# Altium footprint library diploma.PcbLib: 27 footprints (part 1 of 2)
Each footprint in its own frame and in the unit in brackets; x right, y up, seen from the top. Pads: shape width x height; smd on the part's side, far side on the other; paste and mask are expansions set on the pad; w line width, h text height; cw(c..) or ccw(c..) is an arc to the next point about the centre after c.
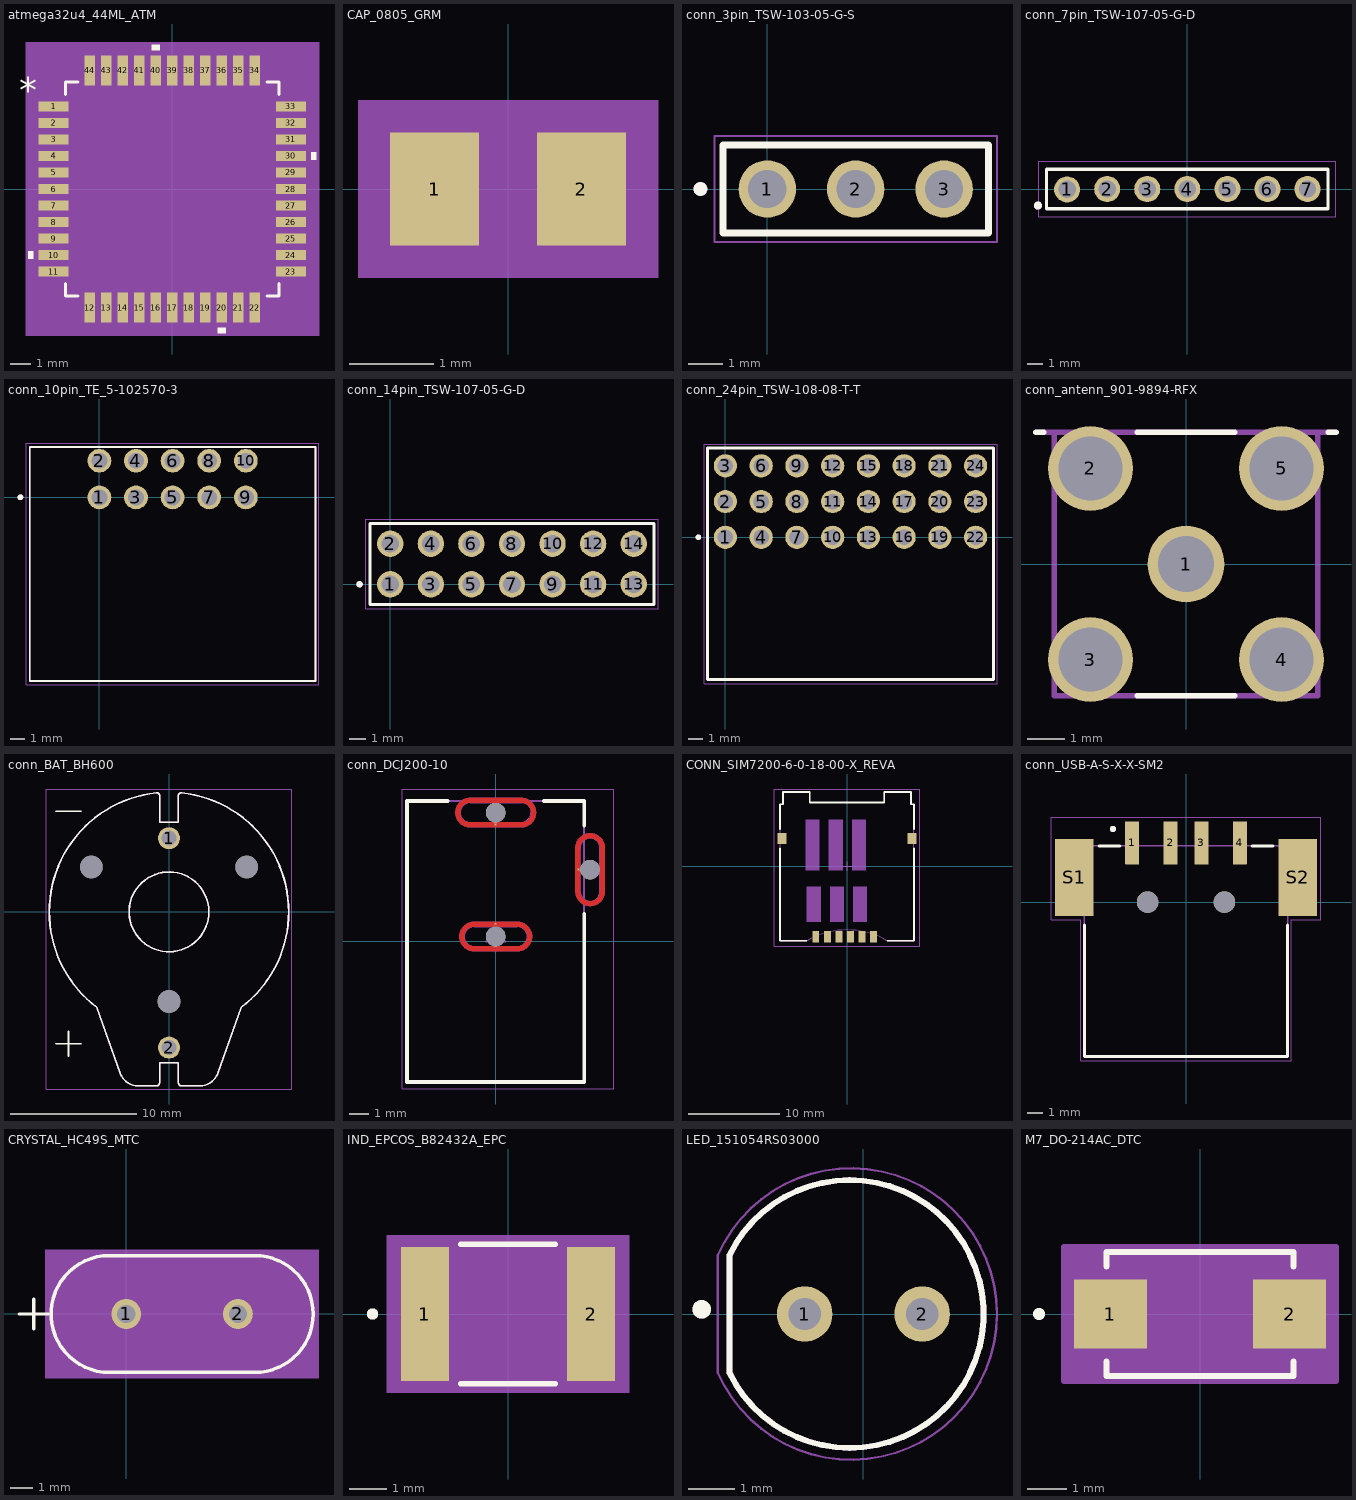
[diagram p0: the footprints below, top view; thin cyan lines are the x and y axes]

## atmega32u4_44ML_ATM [mm]
pads (44):
  rect 1.45x0.5 smd paste+0 mask+0: 1(-5.75,4) 2(-5.75,3.2) 3(-5.75,2.4) 4(-5.75,1.6) 5(-5.75,0.8) 6(-5.75,0) 7(-5.75,-0.8) 8(-5.75,-1.6) 9(-5.75,-2.4) 10(-5.75,-3.2) 11(-5.75,-4) 23(5.75,-4) 24(5.75,-3.2) 25(5.75,-2.4) 26(5.75,-1.6) 27(5.75,-0.8) 28(5.75,0) 29(5.75,0.8) 30(5.75,1.6) 31(5.75,2.4) 32(5.75,3.2) 33(5.75,4)
  rect 0.5x1.45 smd paste+0 mask+0: 12(-4,-5.75) 13(-3.2,-5.75) 14(-2.4,-5.75) 15(-1.6,-5.75) 16(-0.8,-5.75) 17(0,-5.75) 18(0.8,-5.75) 19(1.6,-5.75) 20(2.4,-5.75) 21(3.2,-5.75) 22(4,-5.75) 34(4,5.75) 35(3.2,5.75) 36(2.4,5.75) 37(1.6,5.75) 38(0.8,5.75) 39(0,5.75) 40(-0.8,5.75) 41(-1.6,5.75) 42(-2.4,5.75) 43(-3.2,5.75) 44(-4,5.75)
Top Overlay:
  region: -6.729,-3.009 -6.983,-3.009 -6.983,-3.39 -6.729,-3.39
  region: 2.591,-6.729 2.21,-6.729 2.21,-6.983 2.591,-6.983
  region: 6.729,1.79 6.983,1.79 6.983,1.409 6.729,1.409
  region: -0.61,6.729 -0.991,6.729 -0.991,6.983 -0.61,6.983
  lines w0.152: -5.177,-4.583 -5.177,-5.177 -4.583,-5.177 ; -5.177,4.583 -5.177,5.177 -4.583,5.177 ; 4.583,-5.177 5.177,-5.177 5.177,-4.583 ; 4.583,5.177 5.177,5.177 5.177,4.583
  text "*" at -7.428,4.146 h1.27
Mechanical 5:
  region: 7.11,-7.11 -7.11,-7.11 -7.11,7.11 7.11,7.11
Mechanical 13:
  drawing of 181 lines, arcs and shapes, not listed
  text "*" at -4.987,3.765 h1.27
Mechanical 15:
  region: -4.504,-5.304 -5.304,-5.304 -5.304,-4.504 -6.729,-4.504 -6.729,4.504 -5.304,4.504 -5.304,5.304 -4.504,5.304 -4.504,6.729 4.504,6.729 4.504,5.304 5.304,5.304 5.304,4.504 6.729,4.504 6.729,-4.504 5.304,-4.504 5.304,-5.304 4.504,-5.304 4.504,-6.729 -4.504,-6.729
  lines w0.152: -6.729,-4.504 -5.304,-4.504 -5.304,-5.304 -4.504,-5.304 -4.504,-6.729 4.504,-6.729 4.504,-5.304 5.304,-5.304 5.304,-4.504 6.729,-4.504 6.729,4.504 5.304,4.504 5.304,5.304 4.504,5.304 4.504,6.729 -4.504,6.729 -4.504,5.304 -5.304,5.304 -5.304,4.504 -6.729,4.504 -6.729,-4.504
3D body: height 0.25, standoff 0, extent 0,0 0.254,0.254
3D body "ATmega32U4_44ML_ATM.step": height 1.2, standoff 0, extent -6.125,-6.125 6.125,6.125

## CAP_0805_GRM [mil]
pads (2):
  rect 41.78x53 smd paste+0 mask+0: 1(-34.39,0) 2(34.39,0)
Mechanical 5:
  region: 70.28,-41.5 -70.28,-41.5 -70.28,41.5 70.28,41.5
Mechanical 13:
  lines w1: -41.5,-26.5 -41.5,26.5 ; -41.5,-26.5 -13.5,-26.5 -13.5,26.5 -41.5,26.5 ; -41.5,-26.5 41.5,-26.5 ; -41.5,-26.5 -41.5,26.5 ; -41.5,26.5 41.5,26.5 ; 41.5,-26.5 13.5,-26.5 13.5,26.5 41.5,26.5 ; 41.5,-26.5 41.5,26.5 ; 41.5,-26.5 41.5,26.5
Mechanical 15:
  region: 65.28,-36.5 -65.28,-36.5 -65.28,36.5 65.28,36.5
  lines w6: -65.28,-36.5 -65.28,36.5 65.28,36.5 65.28,-36.5 -65.28,-36.5
3D body "CAP_GRM_21B_MUR.step": height 52.99, standoff 0, extent -41.49,-26.49 41.51,26.5
3D body: height 10, standoff 0, extent 0,0 10,10

## conn_3pin_TSW-103-05-G-S [mm]
pads (3):
  round 1.65 hole 1.1: 1(0,0) 2(2.54,0) 3(5.08,0)
Top Overlay:
  circle w0.2: c-1.92,0 r0.1
  lines w0.2: -1.27,-1.27 6.35,-1.27 6.35,1.27 -1.27,1.27 -1.27,-1.27
Mechanical 13:
  circle w0.2: c-1.92,0 r0.1
  lines w0.1: -1.27,-1.27 6.35,-1.27 6.35,1.27 -1.27,1.27 -1.27,-1.27
Mechanical 15:
  lines w0.05: -1.52,-1.52 6.6,-1.52 6.6,1.52 -1.52,1.52 -1.52,-1.52
3D body "TSW-103-05-G-S.stp": height 5.21, standoff -3.3, extent -1.397,-1.27 6.35,1.27

## conn_7pin_TSW-107-05-G-D [mm] "2.54mm pitch, 7 pin, terminal strip; straight, single row"
height 2.54
pads (7):
  round 1.65 hole 1.1 mask+0: 1(-7.62,-0.025) 2(-5.08,0) 3(-2.54,0) 4(0,0) 5(2.54,0) 6(5.08,0) 7(7.62,0)
Top Overlay:
  circle w0.25: c-9.47,-1.05 r0.125
  lines w0.2: -8.92,-1.25 -8.92,1.25 8.93,1.25 8.93,-1.25 -8.92,-1.25
Mechanical 12:
  lines w0.001: -8.92,-1.25 -8.92,1.25 8.93,1.25 8.93,-1.25 -8.92,-1.25
Mechanical 13:
  circle w0.25: c-9.47,-1.05 r0.125
  lines w0.1: -8.92,-1.25 -8.92,1.25 8.93,1.25 8.93,-1.25 -8.92,-1.25
  text ".Designator" at 0,0 h1.52
Mechanical 15:
  lines w0.05: -9.42,-1.75 -9.42,1.75 9.43,1.75 9.43,-1.75 -9.42,-1.75
3D body "conn_7pin_TSW-107-05-G-S.stp": height 5.21, standoff -3.3, extent -8.89,-1.27 9.017,1.27

## conn_10pin_TE_5-102570-3 [mm]
pads (10):
  round 1.65 hole 1.1: 1(0,0) 2(0,2.54) 3(2.54,0) 4(2.54,2.54) 5(5.08,0) 6(5.08,2.54) 7(7.62,0) 8(7.62,2.54) 9(10.16,0) 10(10.16,2.54)
Top Overlay:
  circle w0.2: c-5.476,0 r0.1
  lines w0.127: -4.826,-12.738 -4.826,3.493 14.986,3.493 14.986,-12.738 -4.826,-12.738
Mechanical 13:
  circle w0.2: c-5.476,0 r0.1
  lines w0.127: -4.826,-12.738 -4.826,3.493 14.986,3.493 14.986,-12.738 ; -4.826,-12.738 14.986,-12.738 ; -4.826,-12.738 14.986,-12.738
Mechanical 15:
  lines w0.05: -5.076,-12.988 -5.076,3.743 15.236,3.743 15.236,-12.988 -5.076,-12.988
3D body "TE_5-102570-3.STEP": height 11.08, standoff -2.83, extent -4.856,-12.881 14.956,3.35

## conn_14pin_TSW-107-05-G-D [mm]
pads (14):
  round 1.65 hole 1.1: 1(0,0) 2(0,2.54) 3(2.54,0) 4(2.54,2.54) 5(5.08,0) 6(5.08,2.54) 7(7.62,0) 8(7.62,2.54) 9(10.16,0) 10(10.16,2.54) 11(12.7,0) 12(12.7,2.54) 13(15.24,0) 14(15.24,2.54)
Top Overlay:
  circle w0.2: c-1.92,0 r0.1
  lines w0.2: -1.27,-1.27 16.51,-1.27 16.51,3.81 -1.27,3.81 -1.27,-1.27
Mechanical 13:
  circle w0.2: c-1.92,0 r0.1
  lines w0.1: -1.27,-1.27 16.51,-1.27 16.51,3.81 -1.27,3.81 -1.27,-1.27
Mechanical 15:
  lines w0.05: -1.52,-1.52 16.76,-1.52 16.76,4.06 -1.52,4.06 -1.52,-1.52
3D body "conn_2x7pin_TSW-107-05-G-D.stp": height 5.21, standoff -3.3, extent -1.27,-1.27 16.51,3.81

## conn_24pin_TSW-108-08-T-T [mm]
pads (24):
  round 1.65 hole 1.1: 1(0,0) 2(0,2.54) 3(0,5.08) 4(2.54,0) 5(2.54,2.54) 6(2.54,5.08) 7(5.08,0) 8(5.08,2.54) 9(5.08,5.08) 10(7.62,0) 11(7.62,2.54) 12(7.62,5.08) 13(10.16,0) 14(10.16,2.54) 15(10.16,5.08) 16(12.7,0) 17(12.7,2.54) 18(12.7,5.08) 19(15.24,0) 20(15.24,2.54) 21(15.24,5.08) 22(17.78,0) 23(17.78,2.54) 24(17.78,5.08)
Top Overlay:
  circle w0.2: c-1.92,0 r0.1
  lines w0.2: -1.27,-10.1 -1.27,6.35 19.05,6.35 19.05,-10.1 -1.27,-10.1
Mechanical 13:
  circle w0.2: c-1.92,0 r0.1
  lines w0.1: -1.27,-10.1 -1.27,6.35 19.05,6.35 19.05,-10.1 -1.27,-10.1
Mechanical 15:
  lines w0.05: -1.52,-10.4 -1.52,6.6 19.3,6.6 19.3,-10.4 -1.52,-10.4
3D body "TSW-108-08-T-T-LA.stp": height 7.81, standoff -2.6, extent -1.27,-9.938 19.05,5.366

## conn_antenn_901-9894-RFX [mm]
pads (5):
  round 2.05 hole 1.5: 1(0,0)
  round 2.25 hole 1.7: 2(-2.54,2.54) 3(-2.54,-2.54) 4(2.54,-2.54) 5(2.54,2.54)
Top Overlay:
  lines w0.152: -3.988,3.505 -3.785,3.505 ; -1.295,-3.505 1.295,-3.505 ; -1.295,3.505 1.295,3.505 ; 3.785,3.505 3.988,3.505
Mechanical 13:
  lines w0.152: -3.988,3.505 -3.505,3.505 ; 3.988,3.505 3.505,3.505 ; -3.505,3.505 3.505,3.505 ; -3.505,3.505 -3.505,-3.505 3.505,-3.505 3.505,3.505
3D body "901-9894-RFX.STEP": height 10.98, standoff -3.94, extent -4,-3.5 4,13.1

## conn_BAT_BH600 [mm]
pads (5):
  round 1.75 hole 1.2: 1(0,5.86) 2(0,-10.8)
  round 1.8 hole 1.8 unplated: ""(-6.179,3.568) ""(0,-7.135) ""(6.179,3.568)
Top Overlay:
  circle w0.127: c0,0 r3.175
  lines w0.127: -9.525,-0.004 ccw(c-0.005,-0.004) -5.734,-7.607 ; -9.525,0 cw(c-0.002,0) -0.997,9.471 ; -9,-10.5 -7,-10.5 ; -9,8 -7,8 ; -8,-11.5 -8,-9.5 ; -5.75,-7.595 -3.867,-12.851 ; -3.864,-12.858 ccw(c-2.455,-12.345) -2.455,-13.845 -1,-13.845 ccw(c-1,-13.595) -0.75,-13.595 -0.75,-12 0.75,-12 0.75,-13.595 ccw(c1,-13.595) 1,-13.845 2.455,-13.845 ccw(c2.455,-12.345) 3.864,-12.858 ; -0.96,9.475 cw(c-0.968,9.257) -0.75,9.25 -0.75,7.135 0.75,7.135 0.75,9.25 ; 0.75,9.248 cw(c0.965,9.26) 0.961,9.475 ; 0.997,9.471 cw(c0.002,0) 9.525,0 ; 3.867,-12.851 5.75,-7.595 ; 5.734,-7.607 ccw(c0.005,-0.004) 9.525,-0.004
Mechanical 13:
  circle w0.127: c0,0 r3.175
  lines w0.127: -9.525,-0.004 ccw(c-0.005,-0.004) -5.734,-7.607 ; -9.525,0 cw(c-0.002,0) -0.997,9.471 ; -5.75,-7.595 -3.867,-12.851 ; -3.864,-12.858 ccw(c-2.455,-12.345) -2.455,-13.845 -1,-13.845 ccw(c-1,-13.595) -0.75,-13.595 -0.75,-12 0.75,-12 0.75,-13.595 ccw(c1,-13.595) 1,-13.845 2.455,-13.845 ccw(c2.455,-12.345) 3.864,-12.858 ; -0.96,9.475 cw(c-0.968,9.257) -0.75,9.25 -0.75,7.135 0.75,7.135 0.75,9.25 ; 0.75,9.248 cw(c0.965,9.26) 0.961,9.475 ; 0.997,9.471 cw(c0.002,0) 9.525,0 ; 3.867,-12.851 5.75,-7.595 ; 5.734,-7.607 ccw(c0.005,-0.004) 9.525,-0.004
Mechanical 15:
  lines w0.05: -9.775,-14.095 9.775,-14.095 9.775,9.775 -9.775,9.775 -9.775,-14.095
3D body "CR2032_BH600.STEP": height 7.34, standoff -5.36, extent -9.524,-13.843 9.525,9.504

## conn_DCJ200-10 [mm]
pads (6):
  rect 0.1x0.1 smd paste-1 mask+0: 1(0,5.95) 2(0,0.9) 3(4.2,3.65)
  round 1 hole 1: ""(0,0.25) ""(0,6.55) ""(4.8,3.65)
Top Layer:
  region: 1.339,7.299 1.378,7.296 1.417,7.291 1.456,7.284 1.494,7.274 1.532,7.263 1.569,7.25 1.605,7.235 1.64,7.218 1.675,7.2 1.708,7.179 1.741,7.157 1.772,7.133 1.802,7.107 1.83,7.08 1.857,7.052 1.883,7.022 1.907,6.991 1.929,6.958 1.95,6.925 1.968,6.89 1.985,6.855 2,6.819 2.013,6.782 2.024,6.744 2.034,6.706 2.041,6.667 2.046,6.628 2.049,6.589 2.05,6.55 2.049,6.511 2.046,6.472 2.041,6.433 2.034,6.394 2.024,6.356 2.013,6.318 2,6.281 1.985,6.245 1.968,6.21 1.95,6.175 1.929,6.142 1.907,6.109 1.883,6.078 1.857,6.048 1.83,6.02 1.802,5.993 1.772,5.967 1.741,5.943 1.708,5.921 1.675,5.9 1.64,5.882 1.605,5.865 1.569,5.85 1.532,5.837 1.494,5.826 1.456,5.816 1.417,5.809 1.378,5.804 1.339,5.801 1.3,5.8 0,5.8 0,6.05 1.3,6.05 1.326,6.051 1.352,6.053 1.378,6.056 1.404,6.061 1.429,6.067 1.455,6.074 1.479,6.083 1.503,6.093 1.527,6.104 1.55,6.117 1.572,6.131 1.594,6.145 1.615,6.161 1.635,6.178 1.654,6.196 1.672,6.215 1.689,6.235 1.705,6.256 1.719,6.278 1.733,6.3 1.746,6.323 1.757,6.347 1.767,6.371 1.776,6.395 1.783,6.421 1.789,6.446 1.794,6.472 1.797,6.498 1.799,6.524 1.8,6.55 1.799,6.576 1.797,6.602 1.794,6.628 1.789,6.654 1.783,6.679 1.776,6.705 1.767,6.729 1.757,6.753 1.746,6.777 1.733,6.8 1.719,6.822 1.705,6.844 1.689,6.865 1.672,6.885 1.654,6.904 1.635,6.922 1.615,6.939 1.594,6.955 1.572,6.969 1.55,6.983 1.527,6.996 1.503,7.007 1.479,7.017 1.455,7.026 1.429,7.033 1.404,7.039 1.378,7.044 1.352,7.047 1.326,7.049 1.3,7.05 0,7.05 0,7.3 1.3,7.3
  region: 0,7.05 -1.3,7.05 -1.326,7.049 -1.352,7.047 -1.378,7.044 -1.404,7.039 -1.429,7.033 -1.455,7.026 -1.479,7.017 -1.503,7.007 -1.527,6.996 -1.55,6.983 -1.572,6.969 -1.594,6.955 -1.615,6.939 -1.635,6.922 -1.654,6.904 -1.672,6.885 -1.689,6.865 -1.705,6.844 -1.719,6.822 -1.733,6.8 -1.746,6.777 -1.757,6.753 -1.767,6.729 -1.776,6.705 -1.783,6.679 -1.789,6.654 -1.794,6.628 -1.797,6.602 -1.799,6.576 -1.8,6.55 -1.799,6.524 -1.797,6.498 -1.794,6.472 -1.789,6.446 -1.783,6.421 -1.776,6.395 -1.767,6.371 -1.757,6.347 -1.746,6.323 -1.733,6.3 -1.719,6.278 -1.705,6.256 -1.689,6.235 -1.672,6.215 -1.654,6.196 -1.635,6.178 -1.615,6.161 -1.594,6.145 -1.572,6.131 -1.55,6.117 -1.527,6.104 -1.503,6.093 -1.479,6.083 -1.455,6.074 -1.429,6.067 -1.404,6.061 -1.378,6.056 -1.352,6.053 -1.326,6.051 -1.3,6.05 0,6.05 0,5.8 -1.3,5.8 -1.339,5.801 -1.378,5.804 -1.417,5.809 -1.456,5.816 -1.494,5.826 -1.532,5.837 -1.569,5.85 -1.605,5.865 -1.64,5.882 -1.675,5.9 -1.708,5.921 -1.741,5.943 -1.772,5.967 -1.802,5.993 -1.83,6.02 -1.857,6.048 -1.883,6.078 -1.907,6.109 -1.929,6.142 -1.95,6.175 -1.968,6.21 -1.985,6.245 -2,6.281 -2.013,6.318 -2.024,6.356 -2.034,6.394 -2.041,6.433 -2.046,6.472 -2.049,6.511 -2.05,6.55 -2.049,6.589 -2.046,6.628 -2.041,6.667 -2.034,6.706 -2.024,6.744 -2.013,6.782 -2,6.819 -1.985,6.855 -1.968,6.89 -1.95,6.925 -1.929,6.958 -1.907,6.991 -1.883,7.022 -1.857,7.052 -1.83,7.08 -1.802,7.107 -1.772,7.133 -1.741,7.157 -1.708,7.179 -1.675,7.2 -1.64,7.218 -1.605,7.235 -1.569,7.25 -1.532,7.263 -1.494,7.274 -1.456,7.284 -1.417,7.291 -1.378,7.296 -1.339,7.299 -1.3,7.3 0,7.3
  region: 4.839,5.499 4.878,5.496 4.917,5.491 4.956,5.484 4.994,5.474 5.032,5.463 5.069,5.45 5.105,5.435 5.14,5.418 5.175,5.4 5.208,5.379 5.241,5.357 5.272,5.333 5.302,5.307 5.33,5.28 5.357,5.252 5.383,5.222 5.407,5.191 5.429,5.158 5.45,5.125 5.468,5.09 5.485,5.055 5.5,5.019 5.513,4.982 5.524,4.944 5.534,4.906 5.541,4.867 5.546,4.828 5.549,4.789 5.55,4.75 5.55,3.65 5.3,3.65 5.3,4.75 5.299,4.776 5.297,4.802 5.294,4.828 5.289,4.854 5.283,4.879 5.276,4.905 5.267,4.929 5.257,4.953 5.246,4.977 5.233,5 5.219,5.022 5.205,5.044 5.189,5.065 5.172,5.085 5.154,5.104 5.135,5.122 5.115,5.139 5.094,5.155 5.072,5.169 5.05,5.183 5.027,5.196 5.003,5.207 4.979,5.217 4.955,5.226 4.929,5.233 4.904,5.239 4.878,5.244 4.852,5.247 4.826,5.249 4.8,5.25 4.774,5.249 4.748,5.247 4.722,5.244 4.696,5.239 4.671,5.233 4.645,5.226 4.621,5.217 4.597,5.207 4.573,5.196 4.55,5.183 4.528,5.169 4.506,5.155 4.485,5.139 4.465,5.122 4.446,5.104 4.428,5.085 4.411,5.065 4.395,5.044 4.381,5.022 4.367,5 4.354,4.977 4.343,4.953 4.333,4.929 4.324,4.905 4.317,4.879 4.311,4.854 4.306,4.828 4.303,4.802 4.301,4.776 4.3,4.75 4.3,3.65 4.05,3.65 4.05,4.75 4.051,4.789 4.054,4.828 4.059,4.867 4.066,4.906 4.076,4.944 4.087,4.982 4.1,5.019 4.115,5.055 4.132,5.09 4.15,5.125 4.171,5.158 4.193,5.191 4.217,5.222 4.243,5.252 4.27,5.28 4.298,5.307 4.328,5.333 4.359,5.357 4.392,5.379 4.425,5.4 4.46,5.418 4.495,5.435 4.531,5.45 4.568,5.463 4.606,5.474 4.644,5.484 4.683,5.491 4.722,5.496 4.761,5.499 4.8,5.5
  region: 5.55,2.55 5.549,2.511 5.546,2.472 5.541,2.433 5.534,2.394 5.524,2.356 5.513,2.318 5.5,2.281 5.485,2.245 5.468,2.21 5.45,2.175 5.429,2.142 5.407,2.109 5.383,2.078 5.357,2.048 5.33,2.02 5.302,1.993 5.272,1.967 5.241,1.943 5.208,1.921 5.175,1.9 5.14,1.882 5.105,1.865 5.069,1.85 5.032,1.837 4.994,1.826 4.956,1.816 4.917,1.809 4.878,1.804 4.839,1.801 4.8,1.8 4.761,1.801 4.722,1.804 4.683,1.809 4.644,1.816 4.606,1.826 4.568,1.837 4.531,1.85 4.495,1.865 4.46,1.882 4.425,1.9 4.392,1.921 4.359,1.943 4.328,1.967 4.298,1.993 4.27,2.02 4.243,2.048 4.217,2.078 4.193,2.109 4.171,2.142 4.15,2.175 4.132,2.21 4.115,2.245 4.1,2.281 4.087,2.318 4.076,2.356 4.066,2.394 4.059,2.433 4.054,2.472 4.051,2.511 4.05,2.55 4.05,3.65 4.3,3.65 4.3,2.55 4.301,2.524 4.303,2.498 4.306,2.472 4.311,2.446 4.317,2.421 4.324,2.395 4.333,2.371 4.343,2.347 4.354,2.323 4.367,2.3 4.381,2.278 4.395,2.256 4.411,2.235 4.428,2.215 4.446,2.196 4.465,2.178 4.485,2.161 4.506,2.145 4.528,2.131 4.55,2.117 4.573,2.104 4.597,2.093 4.621,2.083 4.645,2.074 4.671,2.067 4.696,2.061 4.722,2.056 4.748,2.053 4.774,2.051 4.8,2.05 4.826,2.051 4.852,2.053 4.878,2.056 4.904,2.061 4.929,2.067 4.955,2.074 4.979,2.083 5.003,2.093 5.027,2.104 5.05,2.117 5.072,2.131 5.094,2.145 5.115,2.161 5.135,2.178 5.154,2.196 5.172,2.215 5.189,2.235 5.205,2.256 5.219,2.278 5.233,2.3 5.246,2.323 5.257,2.347 5.267,2.371 5.276,2.395 5.283,2.421 5.289,2.446 5.294,2.472 5.297,2.498 5.299,2.524 5.3,2.55 5.3,3.65 5.55,3.65
  region: 1.139,0.999 1.178,0.996 1.217,0.991 1.256,0.984 1.294,0.974 1.332,0.963 1.369,0.95 1.405,0.935 1.44,0.918 1.475,0.9 1.508,0.879 1.541,0.857 1.572,0.833 1.602,0.807 1.63,0.78 1.657,0.752 1.683,0.722 1.707,0.691 1.729,0.658 1.75,0.625 1.768,0.59 1.785,0.555 1.8,0.519 1.813,0.482 1.824,0.444 1.834,0.406 1.841,0.367 1.846,0.328 1.849,0.289 1.85,0.25 1.849,0.211 1.846,0.172 1.841,0.133 1.834,0.094 1.824,0.056 1.813,0.018 1.8,-0.019 1.785,-0.055 1.768,-0.09 1.75,-0.125 1.729,-0.158 1.707,-0.191 1.683,-0.222 1.657,-0.252 1.63,-0.28 1.602,-0.307 1.572,-0.333 1.541,-0.357 1.508,-0.379 1.475,-0.4 1.44,-0.418 1.405,-0.435 1.369,-0.45 1.332,-0.463 1.294,-0.474 1.256,-0.484 1.217,-0.491 1.178,-0.496 1.139,-0.499 1.1,-0.5 0,-0.5 0,-0.25 1.1,-0.25 1.126,-0.249 1.152,-0.247 1.178,-0.244 1.204,-0.239 1.229,-0.233 1.255,-0.226 1.279,-0.217 1.303,-0.207 1.327,-0.196 1.35,-0.183 1.372,-0.169 1.394,-0.155 1.415,-0.139 1.435,-0.122 1.454,-0.104 1.472,-0.085 1.489,-0.065 1.505,-0.044 1.519,-0.022 1.533,0 1.546,0.023 1.557,0.047 1.567,0.071 1.576,0.095 1.583,0.121 1.589,0.146 1.594,0.172 1.597,0.198 1.599,0.224 1.6,0.25 1.599,0.276 1.597,0.302 1.594,0.328 1.589,0.354 1.583,0.379 1.576,0.405 1.567,0.429 1.557,0.453 1.546,0.477 1.533,0.5 1.519,0.522 1.505,0.544 1.489,0.565 1.472,0.585 1.454,0.604 1.435,0.622 1.415,0.639 1.394,0.655 1.372,0.669 1.35,0.683 1.327,0.696 1.303,0.707 1.279,0.717 1.255,0.726 1.229,0.733 1.204,0.739 1.178,0.744 1.152,0.747 1.126,0.749 1.1,0.75 0,0.75 0,1 1.1,1
  region: 0,0.75 -1.1,0.75 -1.126,0.749 -1.152,0.747 -1.178,0.744 -1.204,0.739 -1.229,0.733 -1.255,0.726 -1.279,0.717 -1.303,0.707 -1.327,0.696 -1.35,0.683 -1.372,0.669 -1.394,0.655 -1.415,0.639 -1.435,0.622 -1.454,0.604 -1.472,0.585 -1.489,0.565 -1.505,0.544 -1.519,0.522 -1.533,0.5 -1.546,0.477 -1.557,0.453 -1.567,0.429 -1.576,0.405 -1.583,0.379 -1.589,0.354 -1.594,0.328 -1.597,0.302 -1.599,0.276 -1.6,0.25 -1.599,0.224 -1.597,0.198 -1.594,0.172 -1.589,0.146 -1.583,0.121 -1.576,0.095 -1.567,0.071 -1.557,0.047 -1.546,0.023 -1.533,0 -1.519,-0.022 -1.505,-0.044 -1.489,-0.065 -1.472,-0.085 -1.454,-0.104 -1.435,-0.122 -1.415,-0.139 -1.394,-0.155 -1.372,-0.169 -1.35,-0.183 -1.327,-0.196 -1.303,-0.207 -1.279,-0.217 -1.255,-0.226 -1.229,-0.233 -1.204,-0.239 -1.178,-0.244 -1.152,-0.247 -1.126,-0.249 -1.1,-0.25 0,-0.25 0,-0.5 -1.1,-0.5 -1.139,-0.499 -1.178,-0.496 -1.217,-0.491 -1.256,-0.484 -1.294,-0.474 -1.332,-0.463 -1.369,-0.45 -1.405,-0.435 -1.44,-0.418 -1.475,-0.4 -1.508,-0.379 -1.541,-0.357 -1.572,-0.333 -1.602,-0.307 -1.63,-0.28 -1.657,-0.252 -1.683,-0.222 -1.707,-0.191 -1.729,-0.158 -1.75,-0.125 -1.768,-0.09 -1.785,-0.055 -1.8,-0.019 -1.813,0.018 -1.824,0.056 -1.834,0.094 -1.841,0.133 -1.846,0.172 -1.849,0.211 -1.85,0.25 -1.849,0.289 -1.846,0.328 -1.841,0.367 -1.834,0.406 -1.824,0.444 -1.813,0.482 -1.8,0.519 -1.785,0.555 -1.768,0.59 -1.75,0.625 -1.729,0.658 -1.707,0.691 -1.683,0.722 -1.657,0.752 -1.63,0.78 -1.602,0.807 -1.572,0.833 -1.541,0.857 -1.508,0.879 -1.475,0.9 -1.44,0.918 -1.405,0.935 -1.369,0.95 -1.332,0.963 -1.294,0.974 -1.256,0.984 -1.217,0.991 -1.178,0.996 -1.139,0.999 -1.1,1 0,1
Bottom Layer:
  region: 1.339,7.299 1.378,7.296 1.417,7.291 1.456,7.284 1.494,7.274 1.532,7.263 1.569,7.25 1.605,7.235 1.64,7.218 1.675,7.2 1.708,7.179 1.741,7.157 1.772,7.133 1.802,7.107 1.83,7.08 1.857,7.052 1.883,7.022 1.907,6.991 1.929,6.958 1.95,6.925 1.968,6.89 1.985,6.855 2,6.819 2.013,6.782 2.024,6.744 2.034,6.706 2.041,6.667 2.046,6.628 2.049,6.589 2.05,6.55 2.049,6.511 2.046,6.472 2.041,6.433 2.034,6.394 2.024,6.356 2.013,6.318 2,6.281 1.985,6.245 1.968,6.21 1.95,6.175 1.929,6.142 1.907,6.109 1.883,6.078 1.857,6.048 1.83,6.02 1.802,5.993 1.772,5.967 1.741,5.943 1.708,5.921 1.675,5.9 1.64,5.882 1.605,5.865 1.569,5.85 1.532,5.837 1.494,5.826 1.456,5.816 1.417,5.809 1.378,5.804 1.339,5.801 1.3,5.8 0,5.8 0,6.05 1.3,6.05 1.326,6.051 1.352,6.053 1.378,6.056 1.404,6.061 1.429,6.067 1.455,6.074 1.479,6.083 1.503,6.093 1.527,6.104 1.55,6.117 1.572,6.131 1.594,6.145 1.615,6.161 1.635,6.178 1.654,6.196 1.672,6.215 1.689,6.235 1.705,6.256 1.719,6.278 1.733,6.3 1.746,6.323 1.757,6.347 1.767,6.371 1.776,6.395 1.783,6.421 1.789,6.446 1.794,6.472 1.797,6.498 1.799,6.524 1.8,6.55 1.799,6.576 1.797,6.602 1.794,6.628 1.789,6.654 1.783,6.679 1.776,6.705 1.767,6.729 1.757,6.753 1.746,6.777 1.733,6.8 1.719,6.822 1.705,6.844 1.689,6.865 1.672,6.885 1.654,6.904 1.635,6.922 1.615,6.939 1.594,6.955 1.572,6.969 1.55,6.983 1.527,6.996 1.503,7.007 1.479,7.017 1.455,7.026 1.429,7.033 1.404,7.039 1.378,7.044 1.352,7.047 1.326,7.049 1.3,7.05 0,7.05 0,7.3 1.3,7.3
  region: 0,7.05 -1.3,7.05 -1.326,7.049 -1.352,7.047 -1.378,7.044 -1.404,7.039 -1.429,7.033 -1.455,7.026 -1.479,7.017 -1.503,7.007 -1.527,6.996 -1.55,6.983 -1.572,6.969 -1.594,6.955 -1.615,6.939 -1.635,6.922 -1.654,6.904 -1.672,6.885 -1.689,6.865 -1.705,6.844 -1.719,6.822 -1.733,6.8 -1.746,6.777 -1.757,6.753 -1.767,6.729 -1.776,6.705 -1.783,6.679 -1.789,6.654 -1.794,6.628 -1.797,6.602 -1.799,6.576 -1.8,6.55 -1.799,6.524 -1.797,6.498 -1.794,6.472 -1.789,6.446 -1.783,6.421 -1.776,6.395 -1.767,6.371 -1.757,6.347 -1.746,6.323 -1.733,6.3 -1.719,6.278 -1.705,6.256 -1.689,6.235 -1.672,6.215 -1.654,6.196 -1.635,6.178 -1.615,6.161 -1.594,6.145 -1.572,6.131 -1.55,6.117 -1.527,6.104 -1.503,6.093 -1.479,6.083 -1.455,6.074 -1.429,6.067 -1.404,6.061 -1.378,6.056 -1.352,6.053 -1.326,6.051 -1.3,6.05 0,6.05 0,5.8 -1.3,5.8 -1.339,5.801 -1.378,5.804 -1.417,5.809 -1.456,5.816 -1.494,5.826 -1.532,5.837 -1.569,5.85 -1.605,5.865 -1.64,5.882 -1.675,5.9 -1.708,5.921 -1.741,5.943 -1.772,5.967 -1.802,5.993 -1.83,6.02 -1.857,6.048 -1.883,6.078 -1.907,6.109 -1.929,6.142 -1.95,6.175 -1.968,6.21 -1.985,6.245 -2,6.281 -2.013,6.318 -2.024,6.356 -2.034,6.394 -2.041,6.433 -2.046,6.472 -2.049,6.511 -2.05,6.55 -2.049,6.589 -2.046,6.628 -2.041,6.667 -2.034,6.706 -2.024,6.744 -2.013,6.782 -2,6.819 -1.985,6.855 -1.968,6.89 -1.95,6.925 -1.929,6.958 -1.907,6.991 -1.883,7.022 -1.857,7.052 -1.83,7.08 -1.802,7.107 -1.772,7.133 -1.741,7.157 -1.708,7.179 -1.675,7.2 -1.64,7.218 -1.605,7.235 -1.569,7.25 -1.532,7.263 -1.494,7.274 -1.456,7.284 -1.417,7.291 -1.378,7.296 -1.339,7.299 -1.3,7.3 0,7.3
  region: 4.839,5.499 4.878,5.496 4.917,5.491 4.956,5.484 4.994,5.474 5.032,5.463 5.069,5.45 5.105,5.435 5.14,5.418 5.175,5.4 5.208,5.379 5.241,5.357 5.272,5.333 5.302,5.307 5.33,5.28 5.357,5.252 5.383,5.222 5.407,5.191 5.429,5.158 5.45,5.125 5.468,5.09 5.485,5.055 5.5,5.019 5.513,4.982 5.524,4.944 5.534,4.906 5.541,4.867 5.546,4.828 5.549,4.789 5.55,4.75 5.55,3.65 5.3,3.65 5.3,4.75 5.299,4.776 5.297,4.802 5.294,4.828 5.289,4.854 5.283,4.879 5.276,4.905 5.267,4.929 5.257,4.953 5.246,4.977 5.233,5 5.219,5.022 5.205,5.044 5.189,5.065 5.172,5.085 5.154,5.104 5.135,5.122 5.115,5.139 5.094,5.155 5.072,5.169 5.05,5.183 5.027,5.196 5.003,5.207 4.979,5.217 4.955,5.226 4.929,5.233 4.904,5.239 4.878,5.244 4.852,5.247 4.826,5.249 4.8,5.25 4.774,5.249 4.748,5.247 4.722,5.244 4.696,5.239 4.671,5.233 4.645,5.226 4.621,5.217 4.597,5.207 4.573,5.196 4.55,5.183 4.528,5.169 4.506,5.155 4.485,5.139 4.465,5.122 4.446,5.104 4.428,5.085 4.411,5.065 4.395,5.044 4.381,5.022 4.367,5 4.354,4.977 4.343,4.953 4.333,4.929 4.324,4.905 4.317,4.879 4.311,4.854 4.306,4.828 4.303,4.802 4.301,4.776 4.3,4.75 4.3,3.65 4.05,3.65 4.05,4.75 4.051,4.789 4.054,4.828 4.059,4.867 4.066,4.906 4.076,4.944 4.087,4.982 4.1,5.019 4.115,5.055 4.132,5.09 4.15,5.125 4.171,5.158 4.193,5.191 4.217,5.222 4.243,5.252 4.27,5.28 4.298,5.307 4.328,5.333 4.359,5.357 4.392,5.379 4.425,5.4 4.46,5.418 4.495,5.435 4.531,5.45 4.568,5.463 4.606,5.474 4.644,5.484 4.683,5.491 4.722,5.496 4.761,5.499 4.8,5.5
  region: 5.55,2.55 5.549,2.511 5.546,2.472 5.541,2.433 5.534,2.394 5.524,2.356 5.513,2.318 5.5,2.281 5.485,2.245 5.468,2.21 5.45,2.175 5.429,2.142 5.407,2.109 5.383,2.078 5.357,2.048 5.33,2.02 5.302,1.993 5.272,1.967 5.241,1.943 5.208,1.921 5.175,1.9 5.14,1.882 5.105,1.865 5.069,1.85 5.032,1.837 4.994,1.826 4.956,1.816 4.917,1.809 4.878,1.804 4.839,1.801 4.8,1.8 4.761,1.801 4.722,1.804 4.683,1.809 4.644,1.816 4.606,1.826 4.568,1.837 4.531,1.85 4.495,1.865 4.46,1.882 4.425,1.9 4.392,1.921 4.359,1.943 4.328,1.967 4.298,1.993 4.27,2.02 4.243,2.048 4.217,2.078 4.193,2.109 4.171,2.142 4.15,2.175 4.132,2.21 4.115,2.245 4.1,2.281 4.087,2.318 4.076,2.356 4.066,2.394 4.059,2.433 4.054,2.472 4.051,2.511 4.05,2.55 4.05,3.65 4.3,3.65 4.3,2.55 4.301,2.524 4.303,2.498 4.306,2.472 4.311,2.446 4.317,2.421 4.324,2.395 4.333,2.371 4.343,2.347 4.354,2.323 4.367,2.3 4.381,2.278 4.395,2.256 4.411,2.235 4.428,2.215 4.446,2.196 4.465,2.178 4.485,2.161 4.506,2.145 4.528,2.131 4.55,2.117 4.573,2.104 4.597,2.093 4.621,2.083 4.645,2.074 4.671,2.067 4.696,2.061 4.722,2.056 4.748,2.053 4.774,2.051 4.8,2.05 4.826,2.051 4.852,2.053 4.878,2.056 4.904,2.061 4.929,2.067 4.955,2.074 4.979,2.083 5.003,2.093 5.027,2.104 5.05,2.117 5.072,2.131 5.094,2.145 5.115,2.161 5.135,2.178 5.154,2.196 5.172,2.215 5.189,2.235 5.205,2.256 5.219,2.278 5.233,2.3 5.246,2.323 5.257,2.347 5.267,2.371 5.276,2.395 5.283,2.421 5.289,2.446 5.294,2.472 5.297,2.498 5.299,2.524 5.3,2.55 5.3,3.65 5.55,3.65
  region: 1.139,0.999 1.178,0.996 1.217,0.991 1.256,0.984 1.294,0.974 1.332,0.963 1.369,0.95 1.405,0.935 1.44,0.918 1.475,0.9 1.508,0.879 1.541,0.857 1.572,0.833 1.602,0.807 1.63,0.78 1.657,0.752 1.683,0.722 1.707,0.691 1.729,0.658 1.75,0.625 1.768,0.59 1.785,0.555 1.8,0.519 1.813,0.482 1.824,0.444 1.834,0.406 1.841,0.367 1.846,0.328 1.849,0.289 1.85,0.25 1.849,0.211 1.846,0.172 1.841,0.133 1.834,0.094 1.824,0.056 1.813,0.018 1.8,-0.019 1.785,-0.055 1.768,-0.09 1.75,-0.125 1.729,-0.158 1.707,-0.191 1.683,-0.222 1.657,-0.252 1.63,-0.28 1.602,-0.307 1.572,-0.333 1.541,-0.357 1.508,-0.379 1.475,-0.4 1.44,-0.418 1.405,-0.435 1.369,-0.45 1.332,-0.463 1.294,-0.474 1.256,-0.484 1.217,-0.491 1.178,-0.496 1.139,-0.499 1.1,-0.5 0,-0.5 0,-0.25 1.1,-0.25 1.126,-0.249 1.152,-0.247 1.178,-0.244 1.204,-0.239 1.229,-0.233 1.255,-0.226 1.279,-0.217 1.303,-0.207 1.327,-0.196 1.35,-0.183 1.372,-0.169 1.394,-0.155 1.415,-0.139 1.435,-0.122 1.454,-0.104 1.472,-0.085 1.489,-0.065 1.505,-0.044 1.519,-0.022 1.533,0 1.546,0.023 1.557,0.047 1.567,0.071 1.576,0.095 1.583,0.121 1.589,0.146 1.594,0.172 1.597,0.198 1.599,0.224 1.6,0.25 1.599,0.276 1.597,0.302 1.594,0.328 1.589,0.354 1.583,0.379 1.576,0.405 1.567,0.429 1.557,0.453 1.546,0.477 1.533,0.5 1.519,0.522 1.505,0.544 1.489,0.565 1.472,0.585 1.454,0.604 1.435,0.622 1.415,0.639 1.394,0.655 1.372,0.669 1.35,0.683 1.327,0.696 1.303,0.707 1.279,0.717 1.255,0.726 1.229,0.733 1.204,0.739 1.178,0.744 1.152,0.747 1.126,0.749 1.1,0.75 0,0.75 0,1 1.1,1
  region: 0,0.75 -1.1,0.75 -1.126,0.749 -1.152,0.747 -1.178,0.744 -1.204,0.739 -1.229,0.733 -1.255,0.726 -1.279,0.717 -1.303,0.707 -1.327,0.696 -1.35,0.683 -1.372,0.669 -1.394,0.655 -1.415,0.639 -1.435,0.622 -1.454,0.604 -1.472,0.585 -1.489,0.565 -1.505,0.544 -1.519,0.522 -1.533,0.5 -1.546,0.477 -1.557,0.453 -1.567,0.429 -1.576,0.405 -1.583,0.379 -1.589,0.354 -1.594,0.328 -1.597,0.302 -1.599,0.276 -1.6,0.25 -1.599,0.224 -1.597,0.198 -1.594,0.172 -1.589,0.146 -1.583,0.121 -1.576,0.095 -1.567,0.071 -1.557,0.047 -1.546,0.023 -1.533,0 -1.519,-0.022 -1.505,-0.044 -1.489,-0.065 -1.472,-0.085 -1.454,-0.104 -1.435,-0.122 -1.415,-0.139 -1.394,-0.155 -1.372,-0.169 -1.35,-0.183 -1.327,-0.196 -1.303,-0.207 -1.279,-0.217 -1.255,-0.226 -1.229,-0.233 -1.204,-0.239 -1.178,-0.244 -1.152,-0.247 -1.126,-0.249 -1.1,-0.25 0,-0.25 0,-0.5 -1.1,-0.5 -1.139,-0.499 -1.178,-0.496 -1.217,-0.491 -1.256,-0.484 -1.294,-0.474 -1.332,-0.463 -1.369,-0.45 -1.405,-0.435 -1.44,-0.418 -1.475,-0.4 -1.508,-0.379 -1.541,-0.357 -1.572,-0.333 -1.602,-0.307 -1.63,-0.28 -1.657,-0.252 -1.683,-0.222 -1.707,-0.191 -1.729,-0.158 -1.75,-0.125 -1.768,-0.09 -1.785,-0.055 -1.8,-0.019 -1.813,0.018 -1.824,0.056 -1.834,0.094 -1.841,0.133 -1.846,0.172 -1.849,0.211 -1.85,0.25 -1.849,0.289 -1.846,0.328 -1.841,0.367 -1.834,0.406 -1.824,0.444 -1.813,0.482 -1.8,0.519 -1.785,0.555 -1.768,0.59 -1.75,0.625 -1.729,0.658 -1.707,0.691 -1.683,0.722 -1.657,0.752 -1.63,0.78 -1.602,0.807 -1.572,0.833 -1.541,0.857 -1.508,0.879 -1.475,0.9 -1.44,0.918 -1.405,0.935 -1.369,0.95 -1.332,0.963 -1.294,0.974 -1.256,0.984 -1.217,0.991 -1.178,0.996 -1.139,0.999 -1.1,1 0,1
Top Overlay:
  lines w0.2: -2.45,7.15 -4.5,7.15 -4.5,-7.15 4.5,-7.15 4.5,1.4 ; 2.45,7.15 4.5,7.15 4.5,5.9
Top Paste:
  drawing of 6 lines, arcs and shapes, not listed
Bottom Paste:
  drawing of 6 lines, arcs and shapes, not listed
Top Solder:
  region: 2.15,5.706 -2.152,5.706 -2.152,7.4 2.15,7.4
  region: 5.648,5.6 5.648,1.705 3.952,1.705 3.952,5.6
  region: 1.95,-0.6 -1.951,-0.6 -1.951,1.1 1.95,1.1
Bottom Solder:
  region: 2.15,5.71 -2.154,5.71 -2.154,7.4 2.15,7.4
  region: 1.95,-0.6 -1.95,-0.6 -1.95,1.1 1.95,1.1
  region: 5.647,5.6 5.647,1.705 3.953,1.705 3.953,5.6
MechanicalLayer1:
  lines w0: -1.8,6.55 ccw(c-1.3,6.55) -1.3,6.05 1.25,6.05 ccw(c1.25,6.6) 1.8,6.6 ccw(c1.35,6.6) 1.35,7.05 -1.3,7.05 ccw(c-1.3,6.55) -1.8,6.55 ; -1.6,0.25 ccw(c-1.1,0.25) -1.1,-0.25 1.1,-0.25 ccw(c1.1,0.25) 1.6,0.25 ccw(c1.1,0.25) 1.1,0.75 -1.1,0.75 ccw(c-1.1,0.25) -1.6,0.25 ; 4.3,2.55 ccw(c4.8,2.55) 4.8,2.05 ccw(c4.8,2.55) 5.3,2.55 5.3,4.75 ccw(c4.8,4.75) 4.8,5.25 ccw(c4.8,4.75) 4.3,4.75 4.3,2.55
Mechanical 13:
  lines w0.1: -0.5,0 0.5,0 ; 0,-0.5 0,0.5 ; -4.5,-7.15 -4.5,7.15 4.5,7.15 4.5,-7.15 -4.5,-7.15
Mechanical 15:
  lines w0.05: -4.75,-7.5 -4.75,7.75 6,7.75 6,-7.5 -4.75,-7.5
3D body "DCJ200-10-A-K1-K--3DModel-STEP-56544.STEP": height 11, standoff -3.5, extent -4.445,-7.277 5.105,7.023

## CONN_SIM7200-6-0-18-00-X_REVA [mm]
pads (8):
  rect 0.75x1.25 smd: 1(-2.16,-7.75) 2(0.38,-7.75) 3(2.92,-7.75) 4(-3.43,-7.75) 5(-0.89,-7.75) 6(1.65,-7.75)
  rect 1x1.2 smd: ""(-7.15,3.075) ""(7.15,3.075)
Top Overlay:
  lines w0.2: -7.35,2 -7.35,-8.175 -4.42,-8.175 ; -7.35,4.1 -7.35,6.825 -7.025,6.825 -7.025,8.175 -4.095,8.175 -4.095,7.025 4.095,7.025 4.095,8.175 7.025,8.175 7.025,6.825 7.35,6.825 7.35,4.1 ; 4.42,-8.175 7.35,-8.175 7.35,2
Mechanical 13:
  lines w0.1: -4.42,-8.175 -7.35,-8.175 -7.35,6.825 -7.025,6.825 -7.025,8.175 -4.095,8.175 -4.095,7.025 4.095,7.025 4.095,8.175 7.025,8.175 7.025,6.825 7.35,6.825 7.35,-8.175 4.42,-8.175 ; -4.37,-8.146 cw(c0,-15.715) 4.37,-8.146
Mechanical 15:
  region: 2.18,-6.105 0.68,-6.105 0.68,-2.215 2.18,-2.215
  region: -0.49,-0.405 -1.99,-0.405 -1.99,5.095 -0.49,5.095
  region: -0.36,-6.105 -1.86,-6.105 -1.86,-2.215 -0.36,-2.215
  region: 2.05,-0.405 0.55,-0.405 0.55,5.095 2.05,5.095
  region: -2.9,-6.105 -4.4,-6.105 -4.4,-2.215 -2.9,-2.215
  region: -3.03,-0.405 -4.53,-0.405 -4.53,5.095 -3.03,5.095
  lines w0.05: -8,-8.75 8,-8.75 8,8.5 -8,8.5 -8,-8.75
  lines w0.1: -0.5,0 0.5,0 ; 0,-0.5 0,0.5
3D body "SIM7200.STEP": height 1.74, standoff -0.01, extent -7.355,-8.236 7.345,8.114

## conn_USB-A-S-X-X-SM2 [mm]
pads (8):
  rrect4% 0.9x2.8 smd: 1(-3.5,3.85) 2(-1,3.85) 3(1,3.85) 4(3.5,3.85)
  rect 2.5x5 smd: S1(-7.25,1.6) S2(7.25,1.6)
  round 1.4 hole 1.4 unplated: ""(-2.5,0) ""(2.5,0)
Top Overlay:
  circle w0.2: c-4.75,4.75 r0.1
  lines w0.2: -6.6,-1.5 -6.6,-10.05 6.6,-10.05 6.6,-1.5 ; -5.65,3.65 -4.3,3.65 ; 4.3,3.65 5.65,3.65
Mechanical 13:
  circle w0.2: c-4.75,4.75 r0.1
  lines w0.1: -6.6,-10.05 -6.6,3.65 6.6,3.65 6.6,-10.05 -6.6,-10.05
  text "PCB EDGE" at -3.5,-9.5 h1.02
Mechanical 15:
  lines w0.05: -8.75,-1.15 -8.75,5.5 8.75,5.5 8.75,-1.15 6.85,-1.15 6.85,-10.3 -6.85,-10.3 -6.85,-1.15 -8.75,-1.15
3D body "USB-A-S-S-B-SM2-TR.stp": height 7.8, standoff -1.1, extent -8.2,-10.05 8.2,4.95

## CRYSTAL_HC49S_MTC [mm]
pads (2):
  round 1.3 hole 0.8 mask+0: 1(0,0) 2(4.88,0)
Top Overlay:
  lines w0.152: -4.685,0 -3.415,0 ; -4.05,-0.635 -4.05,0.635 ; -0.735,-2.553 cw(c-0.735,0) -0.735,2.553 5.615,2.553 cw(c5.615,0) 8.168,0 cw(c5.615,0) 5.615,-2.553 -0.735,-2.553
Mechanical 5:
  region: 8.422,-2.807 -3.542,-2.807 -3.542,2.807 8.422,2.807
Mechanical 13:
  lines w0: -0.735,-2.426 cw(c-0.735,0) -0.735,2.426 ; 5.615,-2.426 ccw(c5.615,0) 5.615,2.426
  lines w0.025: -4.685,0 -3.415,0 ; -4.05,-0.635 -4.05,0.635 ; -0.735,-2.426 5.615,-2.426 ; -0.735,2.426 5.615,2.426
Mechanical 15:
  region: 8.295,-2.68 -3.415,-2.68 -3.415,2.68 8.295,2.68
  lines w0.152: -3.415,-2.68 -3.415,2.68 8.295,2.68 8.295,-2.68 -3.415,-2.68
3D body "CRYSTAL_HC49S_MTC.step": height 3.99, standoff -3.99, extent -3.43,-2.667 8.256,2.669
3D body: height 0.25, standoff 0, extent 0,0 0.254,0.254

## IND_EPCOS_B82432A_EPC [mil]
pads (2):
  rect 51x142 smd paste+0 mask+0: 1(-88.5,0) 2(88.5,0)
Top Overlay:
  circle w6: c-144,0 r3
  lines w6: -50.25,-74 50.25,-74 ; -50.25,74 50.25,74
Mechanical 5:
  region: 129,-84 -129,-84 -129,84 129,84
Mechanical 13:
  circle w0: c-91.5,0 r3
  lines w1: -94.5,-69 94.5,-69 94.5,69 -94.5,69 -94.5,-69
Mechanical 15:
  region: -104.5,-81 -124,-81 -124,81 -104.5,81 104.5,81 124,81 124,-81 104.5,-81
  lines w6: -124,-81 -124,81 -104.5,81 104.5,81 124,81 124,-81 104.5,-81 -104.5,-81 -124,-81
3D body: height 10, standoff 0, extent 0,0 10,10
3D body "IND_EPCOS_B82432A_EPC.step": height 134.09, standoff -0.12, extent -93.5,-69.09 95.48,69.1

## LED_151054RS03000 [mm]
pads (2):
  round 1.2 hole 0.7: 1(-1.27,0) 2(1.27,0)
Top Overlay:
  circle w0.2: c-3.5,0.1 r0.1
  lines w0.127: -2.9,-1.27 ccw(c-0.296,0) -2.9,1.27 -2.9,-1.27
Mechanical 13:
  circle w0.2: c-3.5,0.1 r0.1
  lines w0.127: -2.9,-1.27 ccw(c-0.296,0) -2.9,1.27 -2.9,-1.27
Mechanical 15:
  lines w0.05: -3.15,-1.27 -3.15,1.27 ; -3.144,-1.283 ccw(c-0.264,0) -3.144,1.283
3D body "led.STEP": height 15.1, standoff -20.4, extent -2.56,-2.925 2.85,2.875

## M7_DO-214AC_DTC [mm]
pads (2):
  rect 1.849x1.752 smd paste+0 mask+0: 1(-2.27,0) 2(2.27,0)
Top Overlay:
  circle w0.152: c-4.084,0 r0.076
  lines w0.152: -2.375,-1.209 -2.375,-1.575 2.375,-1.575 2.375,-1.209 ; -2.375,1.209 -2.375,1.575 2.375,1.575 2.375,1.209
Mechanical 5:
  region: 3.385,-1.638 -3.385,-1.638 -3.385,1.638 3.385,1.638
Mechanical 13:
  circle w0: c-2.271,0 r0.076
  lines w0.025: -2.248,-0.724 -1.524,-1.448 ; -2.248,0.724 -1.524,1.448 ; -2.845,-0.851 -2.248,-0.851 -2.248,0.851 -2.845,0.851 -2.845,-0.851 ; -2.248,-1.448 -2.248,1.448 2.248,1.448 2.248,-1.448 -2.248,-1.448 ; 2.248,-0.851 2.845,-0.851 2.845,0.851 2.248,0.851 2.248,-0.851
Mechanical 15:
  region: 3.449,-1.702 -3.449,-1.702 -3.449,1.702 3.449,1.702
  lines w0.152: -3.449,-1.702 3.449,-1.702 3.449,1.702 -3.449,1.702 -3.449,-1.702
3D body "M7_DO-214AC.step": height 2.34, standoff 0, extent -2.642,-1.397 2.642,1.397
3D body: height 0.25, standoff 0, extent 0,0 0.254,0.254